# Altium footprint library IC.PcbLib: 3 footprints
Each footprint in its own frame and in the unit in brackets; x right, y up, seen from the top. Pads: shape width x height; smd on the part's side, far side on the other; paste and mask are expansions set on the pad; w line width, h text height; cw(c..) or ccw(c..) is an arc to the next point about the centre after c.
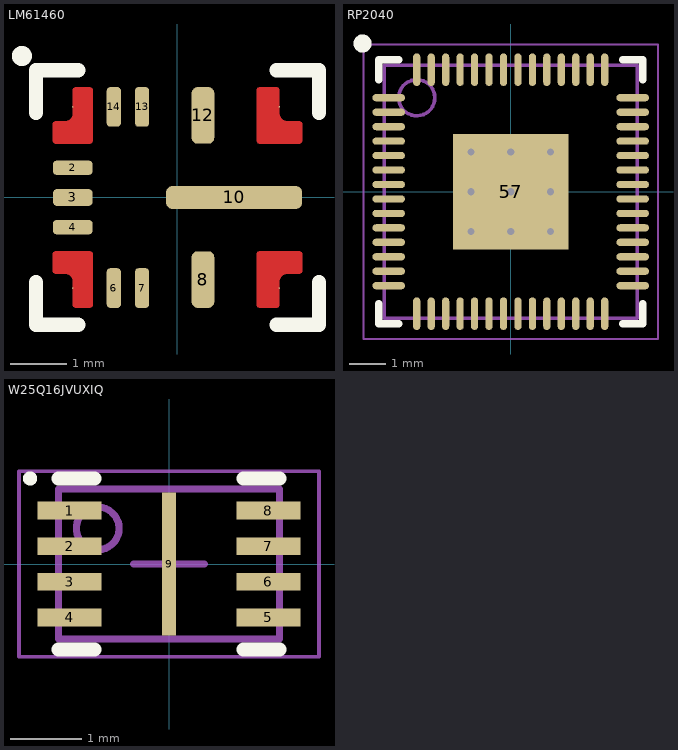
[diagram p0: the footprints below, top view; thin cyan lines are the x and y axes]

## LM61460 [mm]
pads (14):
  round 0.025 smd: 1(-1.85,1.6) 5(-1.85,-1.6) 9(1.8,-1.6) 11(1.8,1.6)
  rrect50% 0.7x0.25 smd: 2(-1.85,0.525) 4(-1.85,-0.525)
  rrect50% 0.7x0.3 smd: 3(-1.85,0)
  rrect50% 0.25x0.7 smd: 6(-1.125,-1.6) 7(-0.625,-1.6) 13(-0.625,1.6) 14(-1.125,1.6)
  rrect50% 0.4x1 smd: 8(0.45,-1.45) 12(0.45,1.45)
  rrect50% 2.4x0.4 smd: 10(1,0)
Top Layer:
  region: 1.8,-1.475 1.802,-1.451 1.821,-1.406 1.856,-1.371 1.901,-1.352 1.925,-1.35 2.15,-1.35 2.16,-1.35 2.178,-1.342 2.192,-1.328 2.2,-1.31 2.2,-1.3 2.2,-1 2.2,-0.99 2.192,-0.972 2.178,-0.958 2.16,-0.95 2.15,-0.95 1.45,-0.95 1.44,-0.95 1.422,-0.958 1.408,-0.972 1.4,-0.99 1.4,-1 1.4,-1.9 1.4,-1.91 1.408,-1.928 1.422,-1.942 1.44,-1.95 1.45,-1.95 1.75,-1.95 1.76,-1.95 1.778,-1.942 1.792,-1.928 1.8,-1.91 1.8,-1.9
  region: 1.8,1.475 1.802,1.451 1.821,1.406 1.856,1.371 1.901,1.352 1.925,1.35 2.15,1.35 2.16,1.35 2.178,1.342 2.192,1.328 2.2,1.31 2.2,1.3 2.2,1 2.2,0.99 2.192,0.972 2.178,0.958 2.16,0.95 2.15,0.95 1.45,0.95 1.44,0.95 1.422,0.958 1.408,0.972 1.4,0.99 1.4,1 1.4,1.9 1.4,1.91 1.408,1.928 1.422,1.942 1.44,1.95 1.45,1.95 1.75,1.95 1.76,1.95 1.778,1.942 1.792,1.928 1.8,1.91 1.8,1.9
  region: -1.85,-1.475 -1.852,-1.451 -1.871,-1.406 -1.906,-1.371 -1.951,-1.352 -1.975,-1.35 -2.15,-1.35 -2.16,-1.35 -2.178,-1.342 -2.192,-1.328 -2.2,-1.31 -2.2,-1.3 -2.2,-1.2 -2.2,-1 -2.2,-0.99 -2.192,-0.972 -2.178,-0.958 -2.16,-0.95 -2.15,-0.95 -1.55,-0.95 -1.54,-0.95 -1.522,-0.958 -1.508,-0.972 -1.5,-0.99 -1.5,-1 -1.5,-1.9 -1.5,-1.91 -1.508,-1.928 -1.522,-1.942 -1.54,-1.95 -1.55,-1.95 -1.8,-1.95 -1.81,-1.95 -1.828,-1.942 -1.842,-1.928 -1.85,-1.91 -1.85,-1.9
  region: -1.85,1.475 -1.852,1.451 -1.871,1.406 -1.906,1.371 -1.951,1.352 -1.975,1.35 -2.15,1.35 -2.16,1.35 -2.178,1.342 -2.192,1.328 -2.2,1.31 -2.2,1.3 -2.2,1.2 -2.2,1 -2.2,0.99 -2.192,0.972 -2.178,0.958 -2.16,0.95 -2.15,0.95 -1.55,0.95 -1.54,0.95 -1.522,0.958 -1.508,0.972 -1.5,0.99 -1.5,1 -1.5,1.9 -1.5,1.91 -1.508,1.928 -1.522,1.942 -1.54,1.95 -1.55,1.95 -1.8,1.95 -1.81,1.95 -1.828,1.942 -1.842,1.928 -1.85,1.91 -1.85,1.9
Top Overlay:
  circle w0.254: c-2.75,2.5 r0.05
  lines w0.254: -2.5,-1.5 -2.5,-2.25 -1.75,-2.25 ; -2.5,1.5 -2.5,2.25 -1.75,2.25 ; 1.75,-2.25 2.5,-2.25 2.5,-1.5 ; 1.75,2.25 2.5,2.25 2.5,1.5
3D body "LM61460.step": height 1, standoff 0, extent -2,-1.75 2,1.75

## RP2040 [mm]
height 0.9
pads (57):
  oval 0.9x0.2 smd: 1(-3.375,2.6) 2(-3.375,2.2) 3(-3.375,1.8) 4(-3.375,1.4) 5(-3.375,1) 6(-3.375,0.6) 7(-3.375,0.2) 8(-3.375,-0.2) 9(-3.375,-0.6) 10(-3.375,-1) 11(-3.375,-1.4) 12(-3.375,-1.8) 13(-3.375,-2.2) 14(-3.375,-2.6) 29(3.375,-2.6) 30(3.375,-2.2) 31(3.375,-1.8) 32(3.375,-1.4) 33(3.375,-1) 34(3.375,-0.6) 35(3.375,-0.2) 36(3.375,0.2) 37(3.375,0.6) 38(3.375,1) 39(3.375,1.4) 40(3.375,1.8) 41(3.375,2.2) 42(3.375,2.6)
  oval 0.2x0.9 smd: 15(-2.6,-3.375) 16(-2.2,-3.375) 17(-1.8,-3.375) 18(-1.4,-3.375) 19(-1,-3.375) 20(-0.6,-3.375) 21(-0.2,-3.375) 22(0.2,-3.375) 23(0.6,-3.375) 24(1,-3.375) 25(1.4,-3.375) 26(1.8,-3.375) 27(2.2,-3.375) 28(2.6,-3.375) 43(2.6,3.375) 44(2.2,3.375) 45(1.8,3.375) 46(1.4,3.375) 47(1,3.375) 48(0.6,3.375) 49(0.2,3.375) 50(-0.2,3.375) 51(-0.6,3.375) 52(-1,3.375) 53(-1.4,3.375) 54(-1.8,3.375) 55(-2.2,3.375) 56(-2.6,3.375)
  rect 3.2x3.2 smd: 57(0,0)
via -1.1,1.1 diameter 0.5 hole 0.2
via 0,1.1 diameter 0.5 hole 0.2
via 1.1,1.1 diameter 0.5 hole 0.2
via -1.1,0 diameter 0.5 hole 0.2
via 0,0 diameter 0.5 hole 0.2
via 1.1,0 diameter 0.5 hole 0.2
via -1.1,-1.1 diameter 0.5 hole 0.2
via 0,-1.1 diameter 0.5 hole 0.2
via 1.1,-1.1 diameter 0.5 hole 0.2
Top Overlay:
  circle w0.25: c-4.1,4.1 r0.125
  lines w0.2: -3.65,-3.1 -3.65,-3.65 -3.1,-3.65 ; -3.65,3.1 -3.65,3.65 -3.1,3.65 ; 3.1,-3.65 3.65,-3.65 3.65,-3.1 ; 3.1,3.65 3.65,3.65 3.65,3.1
Mechanical 13:
  circle w0.1: c-2.6,2.6 r0.5
  lines w0.1: -3.5,-3.5 -3.5,3.5 3.5,3.5 3.5,-3.5 -3.5,-3.5
Mechanical 15:
  lines w0.05: -4.075,-4.075 -4.075,4.075 4.075,4.075 4.075,-4.075 -4.075,-4.075
  lines w0.1: -0.5,0 0.5,0 ; 0,-0.5 0,0.5
3D body "RP2040.step": height 0.9, standoff 0, extent -3.5,-3.5 3.5,3.5

## W25Q16JVUXIQ [mm]
height 0.6
pads (9):
  rect 0.9x0.25 smd: 1(-1.395,0.75) 2(-1.395,0.25) 3(-1.395,-0.25) 4(-1.395,-0.75) 5(1.395,-0.75) 6(1.395,-0.25) 7(1.395,0.25) 8(1.395,0.75)
  rect 0.2x2 smd: 9(0,0)
Top Overlay:
  circle w0.1: c-1.95,1.2 r0.05
  lines w0.2: -1.55,-1.2 -1.045,-1.2 ; -1.55,1.2 -1.045,1.2 ; 1.045,-1.2 1.55,-1.2 ; 1.045,1.2 1.55,1.2
Mechanical 13:
  circle w0.1: c-1,0.5 r0.3
  lines w0.1: -1.55,-1.05 1.55,-1.05 1.55,1.05 -1.55,1.05 -1.55,-1.05
Mechanical 15:
  lines w0.05: -2.105,-1.3 2.105,-1.3 2.105,1.3 -2.105,1.3 -2.105,-1.3
  lines w0.1: -0.5,0 0.5,0 ; 0,-0.5 0,0.5
3D body "W25Q16JVUIXQ.step": height 0.55, standoff 0, extent -1.5,-1 1.5,1